# Altium footprint library Resistors SMD.PcbLib: 42 footprints (part 3 of 3)
Each footprint in its own frame and in the unit in brackets; x right, y up, seen from the top. Pads: shape width x height; smd on the part's side, far side on the other; paste and mask are expansions set on the pad; w line width, h text height; cw(c..) or ccw(c..) is an arc to the next point about the centre after c.
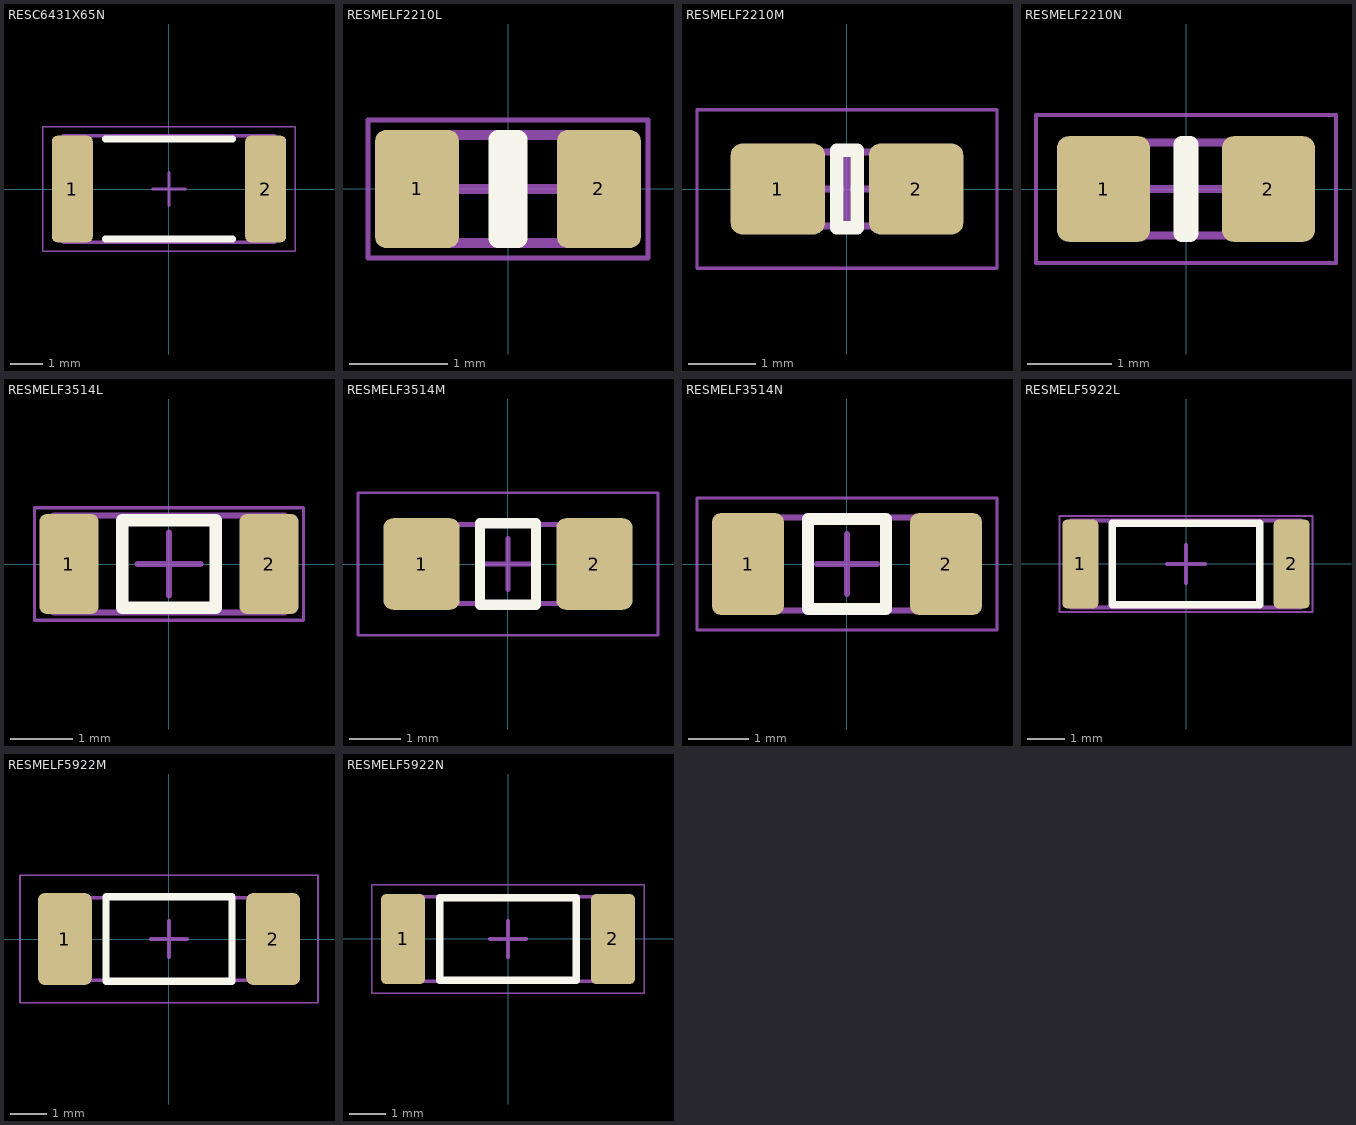
[diagram p2: the footprints below, top view; thin cyan lines are the x and y axes]

## RESC6431X65N [mm] "Chip Resistor, EIA 2512, Metric 6432, Body 6.35x3.10mm, IPC Medium Density"
height 0.65
pads (2):
  rrect25% 1.25x3.25 smd paste+0 mask+0.05: 1(-2.95,0) 2(2.95,0)
Top Overlay:
  lines w0.2: -1.95,-1.525 1.95,-1.525 ; -1.95,1.525 1.95,1.525
Top Component Outline:
  lines w0.1: -3.225,-1.625 3.225,-1.625 3.225,1.625 -3.225,1.625 -3.225,-1.625
Top Courtyard:
  lines w0.05: -3.85,-1.9 3.85,-1.9 3.85,1.9 -3.85,1.9 -3.85,-1.9
Top Component Center:
  lines w0.1: -0.5,0 0.5,0 ; 0,-0.5 0,0.5
Top Designator:
  text ".Designator" at -4.04,-0.476 h2
Top Assembly:
  lines w0.1: -3.225,-1.625 3.225,-1.625 3.225,1.625 -3.225,1.625 -3.225,-1.625
  text ".Designator" at -4.04,-0.476 h2
3D body "RESC6431X65N.step": height 0.65, standoff 0, extent -3.225,-1.625 3.225,1.625

## RESMELF2210L [mm] "MELF Resistor, MicroMELF MMU-0102, Body 2.15x1.05mm, IPC High Density"
height 1.1
pads (2):
  rrect25% 0.85x1.2 smd paste+0 mask+0.05: 1(-0.925,0) 2(0.925,0)
Top Overlay:
  lines w0.2: -0.1,-0.5 0.1,-0.5 0.1,0.5 -0.1,0.5 -0.1,-0.5
Top Component Outline:
  lines w0.1: -1.1,-0.55 -1.1,0.55 1.1,0.55 1.1,-0.55 -1.1,-0.55
Top Courtyard:
  lines w0.05: -1.425,-0.7 -1.425,0.7 1.425,0.7 1.425,-0.7 -1.425,-0.7
Top Component Center:
  lines w0.1: -0.5,0 0.5,0 ; 0,-0.5 0,0.5
Top Designator:
  text ".Designator" at -4.04,-0.476 h2
Top Assembly:
  lines w0.1: -1.1,-0.55 -1.1,0.55 1.1,0.55 1.1,-0.55 -1.1,-0.55
  text ".Designator" at -4.04,-0.476 h2
3D body "RESMELF2210N.step": height 1.05, standoff 0, extent -1.075,-0.521 1.075,0.521

## RESMELF2210M [mm] "MELF Resistor, MicroMELF MMU-0102, Body 2.15x1.05mm, IPC Low Density"
height 1.1
pads (2):
  rrect25% 1.4x1.35 smd paste+0 mask+0.05: 1(-1.025,0) 2(1.025,0)
Top Overlay:
  lines w0.2: -0.15,-0.575 -0.15,0.575 0.15,0.575 0.15,-0.575 -0.15,-0.575
Top Component Outline:
  lines w0.1: -1.1,-0.55 -1.1,0.55 1.1,0.55 1.1,-0.55 -1.1,-0.55
Top Courtyard:
  lines w0.05: -2.225,-1.175 2.225,-1.175 2.225,1.175 -2.225,1.175 -2.225,-1.175
Top Component Center:
  lines w0.1: -0.5,0 0.5,0 ; 0,-0.5 0,0.5
Top Designator:
  text ".Designator" at -4.04,-0.476 h2
Top Assembly:
  lines w0.1: -1.1,-0.55 1.1,-0.55 1.1,0.55 -1.1,0.55 -1.1,-0.55
  text ".Designator" at -4.04,-0.476 h2
3D body "RESMELF2210N.step": height 1.05, standoff 0, extent -1.075,-0.521 1.075,0.521

## RESMELF2210N [mm] "MELF Resistor, MicroMELF MMU-0102, Body 2.15x1.05mm, IPC Medium Density"
height 1.1
pads (2):
  rrect25% 1.1x1.25 smd paste+0 mask+0.05: 1(-0.975,0) 2(0.975,0)
Top Overlay:
  lines w0.2: -0.05,-0.525 -0.05,0.525 0.05,0.525 0.05,-0.525 -0.05,-0.525
Top Component Outline:
  lines w0.1: -1.1,-0.55 1.1,-0.55 1.1,0.55 -1.1,0.55 -1.1,-0.55
Top Courtyard:
  lines w0.05: -1.775,-0.875 1.775,-0.875 1.775,0.875 -1.775,0.875 -1.775,-0.875
Top Component Center:
  lines w0.1: -0.5,0 0.5,0 ; 0,-0.5 0,0.5
Top Designator:
  text ".Designator" at -4.04,-0.476 h2
Top Assembly:
  lines w0.1: -1.1,-0.55 1.1,-0.55 1.1,0.55 -1.1,0.55 -1.1,-0.55
  text ".Designator" at -4.04,-0.476 h2
3D body "RESMELF2210N.step": height 1.05, standoff 0, extent -1.075,-0.521 1.075,0.521

## RESMELF3514L [mm] "MELF Resistor, MiniMELF MMA-0204, Body 3.50x1.40mm, IPC High Density"
height 1.55
pads (2):
  rrect25% 0.95x1.6 smd paste+0 mask+0.05: 1(-1.6,0) 2(1.6,0)
Top Overlay:
  lines w0.2: -0.75,-0.7 0.75,-0.7 0.75,0.7 -0.75,0.7 -0.75,-0.7
Top Component Outline:
  lines w0.1: -1.85,-0.775 1.85,-0.775 1.85,0.775 -1.85,0.775 -1.85,-0.775
Top Courtyard:
  lines w0.05: -2.15,-0.9 -2.15,0.9 2.15,0.9 2.15,-0.9 -2.15,-0.9
Top Component Center:
  lines w0.1: -0.5,0 0.5,0 ; 0,-0.5 0,0.5
Top Designator:
  text ".Designator" at -4.04,-0.476 h2
Top Assembly:
  lines w0.1: -1.85,-0.775 -1.85,0.775 1.85,0.775 1.85,-0.775 -1.85,-0.775
  text ".Designator" at -4.04,-0.476 h2
3D body "RESMELF3514N.step": height 1.4, standoff 0, extent -1.75,-0.695 1.75,0.695

## RESMELF3514M [mm] "MELF Resistor, MiniMELF MMA-0204, Body 3.50x1.40mm, IPC Low Density"
height 1.55
pads (2):
  rrect25% 1.5x1.8 smd paste+0 mask+0.05: 1(-1.7,0) 2(1.7,0)
Top Overlay:
  lines w0.2: -0.55,-0.8 -0.55,0.8 0.55,0.8 0.55,-0.8 -0.55,-0.8
Top Component Outline:
  lines w0.1: -1.85,-0.775 -1.85,0.775 1.85,0.775 1.85,-0.775 -1.85,-0.775
Top Courtyard:
  lines w0.05: -2.95,-1.4 2.95,-1.4 2.95,1.4 -2.95,1.4 -2.95,-1.4
Top Component Center:
  lines w0.1: -0.5,0 0.5,0 ; 0,-0.5 0,0.5
Top Designator:
  text ".Designator" at -4.04,-0.476 h2
Top Assembly:
  lines w0.1: -1.85,-0.775 1.85,-0.775 1.85,0.775 -1.85,0.775 -1.85,-0.775
  text ".Designator" at -4.04,-0.476 h2
3D body "RESMELF3514N.step": height 1.4, standoff 0, extent -1.75,-0.695 1.75,0.695

## RESMELF3514N [mm] "MELF Resistor, MiniMELF MMA-0204,  Body 3.50x1.40mm, IPC Medium Density"
height 1.55
pads (2):
  rrect25% 1.2x1.7 smd paste+0 mask+0.05: 1(-1.65,0) 2(1.65,0)
Top Overlay:
  lines w0.2: -0.65,-0.75 0.65,-0.75 0.65,0.75 -0.65,0.75 -0.65,-0.75
Top Component Outline:
  lines w0.1: -1.95,-0.775 -1.95,0.775 1.75,0.775 1.75,-0.775 -1.95,-0.775
Top Courtyard:
  lines w0.05: -2.5,-1.1 -2.5,1.1 2.5,1.1 2.5,-1.1 -2.5,-1.1
Top Component Center:
  lines w0.1: -0.5,0 0.5,0 ; 0,-0.5 0,0.5
Top Designator:
  text ".Designator" at -4.04,-0.476 h2
Top Assembly:
  lines w0.1: -1.85,-0.775 -1.85,0.775 1.85,0.775 1.85,-0.775 -1.85,-0.775
  text ".Designator" at -4.04,-0.476 h2
3D body "RESMELF3514N.step": height 1.4, standoff 0, extent -1.75,-0.695 1.75,0.695

## RESMELF5922L [mm] "MELF Resistor, MELF MMB-0207, Body 5.90x2.20mm, IPC High Density"
height 2.3
pads (2):
  rrect25% 0.95x2.35 smd paste+0 mask+0.05: 1(-2.8,0) 2(2.8,0)
Top Overlay:
  lines w0.2: -1.95,-1.075 1.95,-1.075 1.95,1.075 -1.95,1.075 -1.95,-1.075
Top Component Outline:
  lines w0.1: -3.05,-1.15 3.05,-1.15 3.05,1.15 -3.05,1.15 -3.05,-1.15
Top Courtyard:
  lines w0.05: -3.35,-1.275 -3.35,1.275 3.35,1.275 3.35,-1.275 -3.35,-1.275
Top Component Center:
  lines w0.1: -0.5,0 0.5,0 ; 0,-0.5 0,0.5
Top Designator:
  text ".Designator" at -4.04,-0.476 h2
Top Assembly:
  lines w0.1: -3.05,-1.15 -3.05,1.15 3.05,1.15 3.05,-1.15 -3.05,-1.15
  text ".Designator" at -4.04,-0.476 h2
3D body "RESMELF5922N.step": height 2.2, standoff 0, extent -2.95,-1.092 2.95,1.092

## RESMELF5922M [mm] "MELF Resistor, MELF MMB-0207, Body 5.90x2.20mm, IPC Low Density"
height 2.3
pads (2):
  rrect25% 1.5x2.55 smd paste+0 mask+0.05: 1(-2.9,0) 2(2.9,0)
Top Overlay:
  lines w0.2: -1.75,-1.175 -1.75,1.175 1.75,1.175 1.75,-1.175 -1.75,-1.175
Top Component Outline:
  lines w0.1: -3.05,-1.15 -3.05,1.15 3.05,1.15 3.05,-1.15 -3.05,-1.15
Top Courtyard:
  lines w0.05: -4.15,-1.775 4.15,-1.775 4.15,1.775 -4.15,1.775 -4.15,-1.775
Top Component Center:
  lines w0.1: -0.5,0 0.5,0 ; 0,-0.5 0,0.5
Top Designator:
  text ".Designator" at -4.04,-0.476 h2
Top Assembly:
  lines w0.1: -3.05,-1.15 3.05,-1.15 3.05,1.15 -3.05,1.15 -3.05,-1.15
  text ".Designator" at -4.04,-0.476 h2
3D body "RESMELF5922N.step": height 2.2, standoff 0, extent -2.95,-1.092 2.95,1.092

## RESMELF5922N [mm] "MELF Resistor, MELF MMB-0207, Body 5.90x2.20mm, IPC Medium Density"
height 2.3
pads (2):
  rrect25% 1.2x2.45 smd paste+0 mask+0.05: 1(-2.85,0) 2(2.85,0)
Top Overlay:
  lines w0.2: -1.85,-1.125 -1.85,1.125 1.85,1.125 1.85,-1.125 -1.85,-1.125
Top Component Outline:
  lines w0.1: -2.95,-1.15 3.15,-1.15 3.15,1.15 -2.95,1.15 -2.95,-1.15
Top Courtyard:
  lines w0.05: -3.7,-1.475 3.7,-1.475 3.7,1.475 -3.7,1.475 -3.7,-1.475
Top Component Center:
  lines w0.1: -0.5,0 0.5,0 ; 0,-0.5 0,0.5
Top Designator:
  text ".Designator" at -4.04,-0.476 h2
Top Assembly:
  lines w0.1: -3.05,-1.15 3.05,-1.15 3.05,1.15 -3.05,1.15 -3.05,-1.15
  text ".Designator" at -4.04,-0.476 h2
3D body "RESMELF5922N.step": height 2.2, standoff 0, extent -2.95,-1.092 2.95,1.092